# Altium footprint library LED0.PcbLib: 1 footprints
Each footprint in its own frame and in the unit in brackets; x right, y up, seen from the top. Pads: shape width x height; smd on the part's side, far side on the other; paste and mask are expansions set on the pad; w line width, h text height; cw(c..) or ccw(c..) is an arc to the next point about the centre after c.
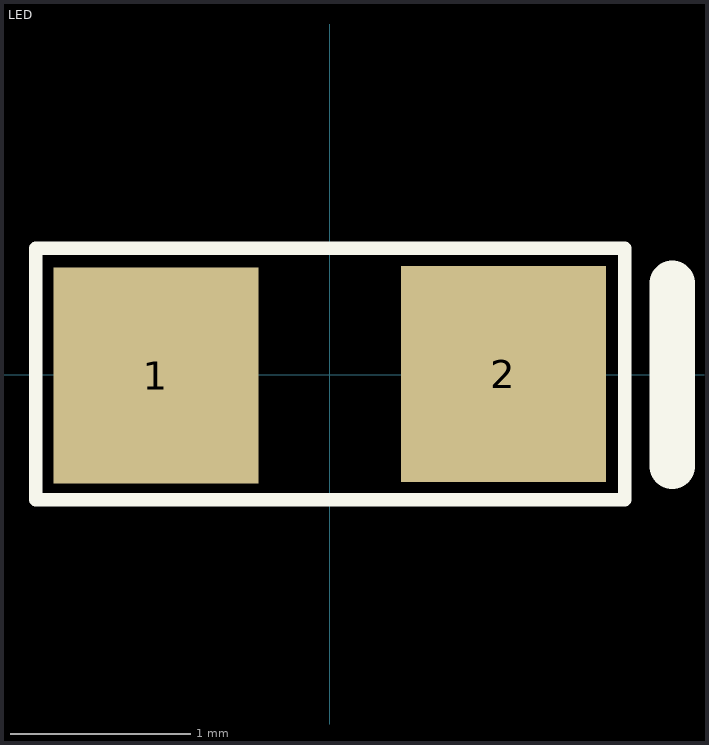
[diagram p0: the footprint, top view; thin cyan lines are the x and y axes]

## LED [mm] "0805封装"
pads (2):
  rect 1.14x1.2 smd: 1(-0.966,-0.004) 2(0.967,0.005)
Top Overlay:
  lines w0.076: -1.633,-0.695 1.642,-0.695 1.642,0.705 -1.633,0.705 -1.633,-0.695
  lines w0.254: 1.905,-0.508 1.905,0.508